# Altium schematic symbol library projectLib.SchLib: 3 symbols
Pins are listed as number, name and electrical type; pins without a type are passive.

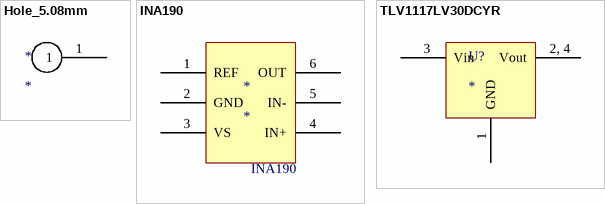
[diagram p0: symbols Hole_5.08mm to TLV1117LV30DCYR]

## Hole_5.08mm
designator *
footprint HOLE_5_08mm
pins: 1

## INA190
designator *
footprint SC70 (DCK) (6 pin)
pins: 1 REF, 2 GND, 3 VS, 4 IN+, 5 IN-, 6 OUT

## TLV1117LV30DCYR
designator U?
footprint SOT23-4N (SOT223, 4-Leads, Body 6.50x7.00mm (avg), Pitch 2.30mm, IPC Medium Density)
pins: 1 GND, 2, 4 Vout, 3 Vin